# EAGLE library part ESP32-DEVBOARD (library ElegooMarsHeater)
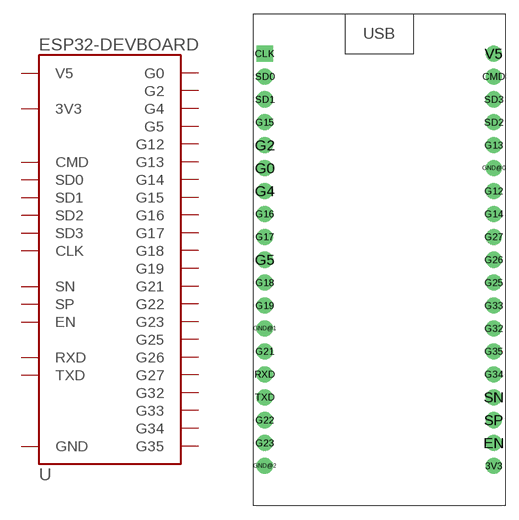
[diagram p0: symbol with the pads of ESP32-DEVBOARD; footprint ESP32-DEVBOARD]

Designator prefix -

## ESP32-DEVBOARD  [ESP32-DEVBOARD]
3V3  3V3  pwr
CLK  CLK
CMD  CMD
EN  EN
G0  G0
G2  G2
G4  G4
G5  G5
G12  G12
G13  G13
G14  G14
G15  G15
G16  G16
G17  G17
G18  G18
G19  G19
G21  G21
G22  G22
G23  G23
G25  G25
G26  G26
G27  G27
G32  G32
G33  G33
G34  G34
G35  G35
GND@0  GND  pwr
GND@1  GND  pwr
GND@2  GND  pwr
RXD  RXD
SD0  SD0
SD1  SD1
SD2  SD2
SD3  SD3
SN  SN
SP  SP
TXD  TXD
V5  V5  pwr

## Footprint ESP32-DEVBOARD (pad centres in mm)
drill 1.016 pad 1.778: 3V3 12.7,-22.86; CMD 12.7,20.32; EN 12.7,-20.32; G0 -12.7,10.16; G2 -12.7,12.7; G4 -12.7,7.62; G5 -12.7,0; G12 12.7,7.62; G13 12.7,12.7; G14 12.7,5.08; G15 -12.7,15.24; G16 -12.7,5.08; G17 -12.7,2.54; G18 -12.7,-2.54; G19 -12.7,-5.08; G21 -12.7,-10.16; G22 -12.7,-17.78; G23 -12.7,-20.32; G25 12.7,-2.54; G26 12.7,0; G27 12.7,2.54; G32 12.7,-7.62; G33 12.7,-5.08; G34 12.7,-12.7; G35 12.7,-10.16; GND@0 12.7,10.16; GND@1 -12.7,-7.62; GND@2 -12.7,-22.86; RXD -12.7,-12.7; SD0 -12.7,20.32; SD1 -12.7,17.78; SD2 12.7,15.24; SD3 12.7,17.78; SN 12.7,-15.24; SP 12.7,-17.78; TXD -12.7,-15.24; V5 12.7,22.86
drill 1.016 pad 1.778 square: CLK -12.7,22.86